# EAGLE library part AMP_OPA1679 (library DSP_PID)
Quad Low-Distortion Audio Operational Amplifiers, +/-18v, 4.5nV/rtHz
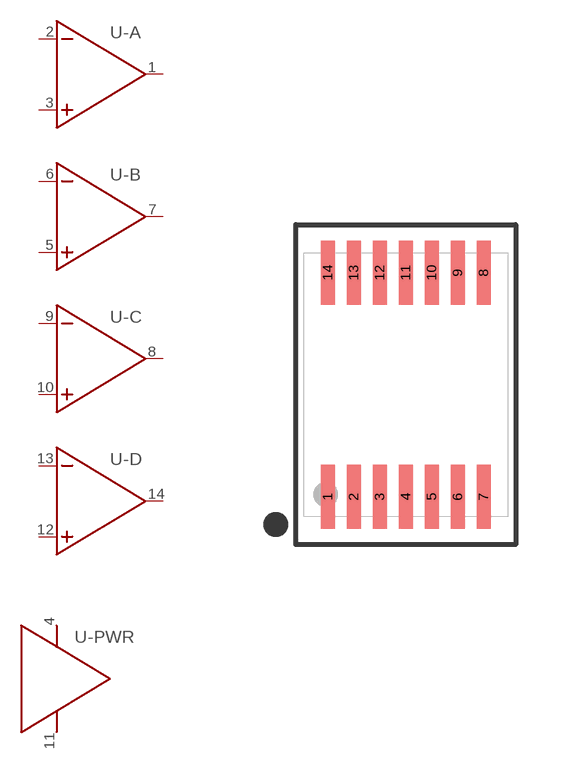
[diagram p5: symbol with the pads of TSSOP-14; footprint TSSOP-14]

Designator prefix U; gates -A=OPAMP -B=OPAMP -C=OPAMP -D=OPAMP -PWR=AMP-PWR

## AMP_OPA1679 (MFG: TEXAS INST; MPN: OPA1679IPWR; VENDOR: DIGIKEY; VPN: OPA1679IPWR-ND)  [TSSOP-14]
1  -A:OUT  pas
2  -A:-  pas
3  -A:+  pas
4  -PWR:V+  pas
5  -B:+  pas
6  -B:-  pas
7  -B:OUT  pas
8  -C:OUT  pas
9  -C:-  pas
10  -C:+  pas
11  -PWR:V-  pas
12  -D:+  pas
13  -D:-  pas
14  -D:OUT  pas

## Footprint TSSOP-14 (pad centres in mm)
14-PIN TSSOP, PITCH 0.65MM
smd 0.35 x 1.6: 1 -1.95,-2.8; 2 -1.3,-2.8; 3 -0.65,-2.8; 4 0,-2.8; 5 0.65,-2.8; 6 1.3,-2.8; 7 1.95,-2.8; 8 1.95,2.8; 9 1.3,2.8; 10 0.65,2.8; 11 0,2.8; 12 -0.65,2.8; 13 -1.3,2.8; 14 -1.95,2.8